# Altium integrated library SMA-J-P-H-ST-EM1.IntLib: 1 symbol
Pins are listed as number, name and electrical type; pins without a type are passive.

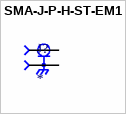
[diagram p0: symbol SMA-J-P-H-ST-EM1]

## SMA-J-P-H-ST-EM1
designator J?
SMA Connector Jack, Female Socket 50Ohm Board Edge, End Launch Solder; MF: Samtec; MP: SMA-J-P-H-ST-EM1; Package: None; Price: None; Value: *; Availability: Unavailable
footprint SAMTEC_SMA-J-P-H-ST-EM1
pins: 1, 2_1 2, 2_2 2, 3_1 2, 3_2 2